# Altium schematic symbol library SMPM-PC-P-HG-ST-TH-1.SchLib: 1 symbol
Pins are listed as number, name and electrical type; pins without a type are passive.

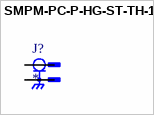
[diagram p0: symbol SMPM-PC-P-HG-ST-TH-1]

## SMPM-PC-P-HG-ST-TH-1
designator J?
RF Connectors / Coaxial Connectors SMPM Plug Thru Hole Catchers Mitt; MF: Samtec; MP: SMPM-PC-P-HG-ST-TH-1; SnapEDA_Link: https://www.snapeda.com/parts/SMPM-PC-P-HG-ST-TH-1/Samtec/view-part/?ref=snap; Package: None; Value: *; Check_prices: https://www.snapeda.com/parts/SMPM-PC-P-HG-ST-TH-1/Samtec/view-part/?ref=eda
footprint SAMTEC_SMPM-PC-P-HG-ST-TH-1
pins: 1, G1 2, G2 2, G3 2, G4 2